# EAGLE library part 47219-2001 (library 47219-2001)
1.10mm Pitch microSD Card Connector, Hinge Type, Lead-Free http://www.snapeda.com/parts/47219-2001/Molex%20/%20Waldom/view-part/#
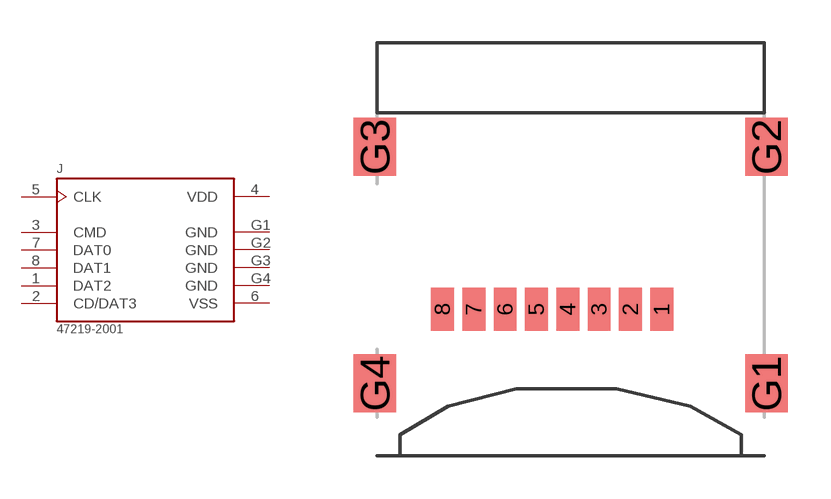
[diagram p0: symbol with the pads of MOLEX_47219-2001; footprint MOLEX_47219-2001]

Designator prefix J

## 47219-2001 (Availability: Good; Description: Conn Micro SD Card SKT 8 POS 1.1mm Solder RA SMD 0.5A/Contact Embossed T/R; MF: Molex; MP: 47219-2001; Package: None; Price: 0.62 USD)  [MOLEX_47219-2001]
1  DAT2
2  CD/DAT3
3  CMD
4  VDD  pwr
5  CLK  in
6  VSS  pwr
7  DAT0
8  DAT1
G1  GND  pwr
G2  GND  pwr
G3  GND  pwr
G4  GND  pwr

## Footprint MOLEX_47219-2001 (pad centres in mm)
smd 0.8 x 1.5: 1 3.2,-2.1; 2 2.1,-2.1; 3 1,-2.1; 4 -0.1,-2.1; 5 -1.2,-2.1; 6 -2.3,-2.1; 7 -3.4,-2.1; 8 -4.5,-2.1
smd 1.5 x 2.05: G1 6.875,-4.7; G2 6.875,3.6; G3 -6.875,3.6; G4 -6.875,-4.7